# Altium schematic symbol library RES,68R,1%,0.125W,0402.Schlib: 1 symbol
Pins are listed as number, name and electrical type; pins without a type are passive.

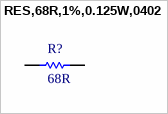
[diagram p0: symbol RES,68R,1%,0.125W,0402]

## RES,68R,1%,0.125W,0402
designator R?, comment 68R
68 Ohms ±1% 0.125W, 1/8W Chip Resistor 0402 (1005 Metric) Pulse Withstanding Thick Film
pins: 1, 2